# Altium schematic symbol library Heatsink.SchLib: 1 symbol
Pins are listed as number, name and electrical type; pins without a type are passive.

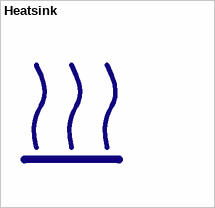
[diagram p0: symbol Heatsink]

## Heatsink
designator M?, comment Fra elavfall
Heatsink
footprint Heatsink_36x31x09